# Altium footprint library OnlabFootprints.PcbLib: 14 footprints
Each footprint in its own frame and in the unit in brackets; x right, y up, seen from the top. Pads: shape width x height; smd on the part's side, far side on the other; paste and mask are expansions set on the pad; w line width, h text height; cw(c..) or ccw(c..) is an arc to the next point about the centre after c.
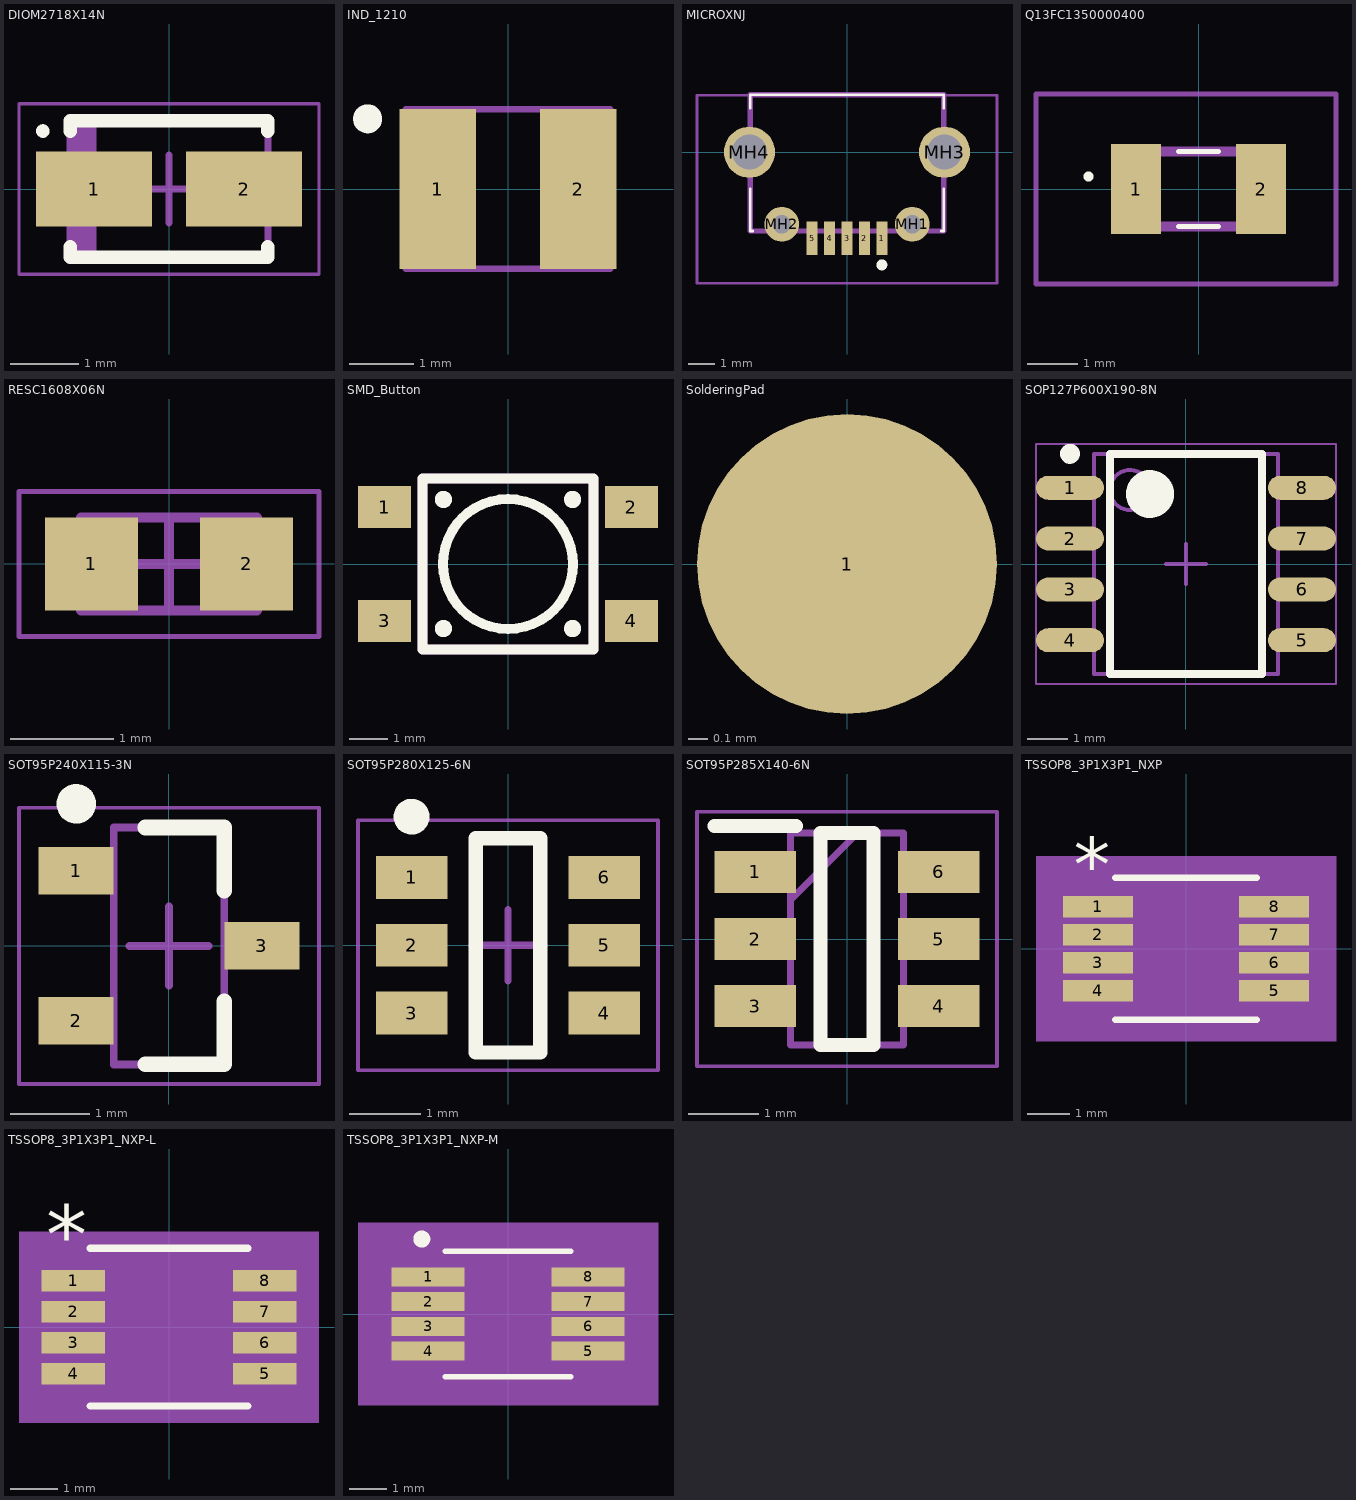
[diagram p0: the footprints below, top view; thin cyan lines are the x and y axes]

## DIOM2718X14N [mm] "Molded Diode, 2-Leads, Body 2,70x1,80mm, IPC Medium Density"
height 1.35
pads (2):
  rect 1.7x1.1 smd: 1(-1.1,0) 2(1.1,0)
Top Overlay:
  circle w0.1: c-1.85,0.85 r0.05
  lines w0.2: -1.45,-0.85 -1.45,-1 1.45,-1 1.45,-0.85 ; -1.45,0.85 -1.45,1 1.45,1 1.45,0.85
Mechanical 13:
  rectangle: -1.45,-1 -1.06,1
  lines w0.1: -1.45,-1 -1.45,1 1.45,1 1.45,-1 -1.45,-1
Mechanical 15:
  lines w0.05: -2.2,-1.25 -2.2,1.25 2.2,1.25 2.2,-1.25 -2.2,-1.25
  lines w0.1: -0.5,0 0.5,0 ; 0,-0.5 0,0.5
3D body "DIOM2718X14N.step": height 1.35, standoff 0, extent -1.67,-1 1.67,1

## IND_1210 [mm]
pads (2):
  rect 1.2x2.5 smd: 1(-1.1,0) 2(1.1,0)
Top Overlay:
  circle w0.254: c-2.2,1.1 r0.1
Mechanical 13:
  lines w0.1: -1.6,-1.25 1.6,-1.25 1.6,1.25 -1.6,1.25 -1.6,-1.25

## MICROXNJ [mm]
pads (9):
  rect 0.4x1.25 smd: 1(1.3,-3.2) 2(0.65,-3.2) 3(0,-3.2) 4(-0.65,-3.2) 5(-1.3,-3.2)
  round 1.3 hole 0.7: MH1(2.425,-2.68) MH2(-2.425,-2.68)
  round 1.9 hole 1.3: MH3(3.625,0) MH4(-3.625,0)
Top Overlay:
  lines w0.1: -3.6,-1.37 -3.6,-2.93 -3.5,-2.93 ; -3.6,1.63 -3.6,2.13 3.6,2.13 3.6,1.63 ; 3.5,-2.93 3.6,-2.93 3.6,-1.37
  lines w0.2: 1.197,-4.191 ccw(c1.297,-4.191) 1.397,-4.191 ccw(c1.297,-4.191) 1.197,-4.191
Mechanical 13:
  lines w0.2: -3.6,-2.93 3.6,-2.93 3.6,2.13 -3.6,2.13 -3.6,-2.93
Mechanical 15:
  lines w0.1: -5.575,-4.87 5.575,-4.87 ; -5.575,-4.87 -5.575,2.12 ; -5.575,-4.87 5.575,-4.87 ; -5.575,-4.87 -5.575,2.12 ; -5.575,2.12 5.575,2.12 ; -5.575,2.12 5.575,2.12 ; 5.575,-4.87 5.575,2.12 ; 5.575,-4.87 5.575,2.12
3D body "MICROXNJ.stp": height 2.55, standoff -1.07, extent -3.95,-3.18 3.95,2.72

## Q13FC1350000400 [mm]
pads (2):
  rect 1x1.8 smd: 1(-1.25,0) 2(1.25,0)
Top Overlay:
  lines w0.1: -0.4,-0.75 0.4,-0.75 ; -0.4,0.75 0.4,0.75 ; -2.2,0.2 ccw(c-2.2,0.25) -2.2,0.3 ccw(c-2.2,0.25) -2.2,0.2
Mechanical 13:
  lines w0.2: -1.6,-0.75 1.6,-0.75 1.6,0.75 -1.6,0.75 -1.6,-0.75
Mechanical 15:
  lines w0.1: -3.25,-1.9 2.75,-1.9 2.75,1.9 -3.25,1.9 -3.25,-1.9

## RESC1608X06N [mm] "Chip Resistor, 2-Leads, Body 1,60x0,80mm, IPC Medium Density"
height 0.6
pads (2):
  rect 0.9x0.9 smd: 1(-0.75,0) 2(0.75,0)
Mechanical 13:
  lines w0.1: -0.85,-0.45 0.85,-0.45 0.85,0.45 -0.85,0.45 -0.85,-0.45
Mechanical 15:
  lines w0.05: -1.45,-0.7 1.45,-0.7 1.45,0.7 -1.45,0.7 -1.45,-0.7
  lines w0.1: -0.45,0 0.45,0 ; 0,-0.45 0,0.45
3D body "RESC1608X06N.step": height 0.6, standoff 0, extent -0.85,-0.45 0.85,0.45

## SMD_Button [mm]
pads (4):
  rect 1.4x1.1 smd: 1(-3.25,1.5) 2(3.25,1.5) 3(-3.25,-1.5) 4(3.25,-1.5)
Top Overlay:
  circle w0.254: c0,0 r1.712
  circle w0.254: c-1.7,-1.7 r0.1
  circle w0.254: c-1.7,1.7 r0.1
  circle w0.254: c1.7,1.7 r0.1
  circle w0.254: c1.7,-1.7 r0.1
  lines w0.254: -2.25,-2.25 2.25,-2.25 2.25,2.25 -2.25,2.25 -2.25,-2.25
Mechanical 13:
  lines w0.254: -2.25,-2.25 -2.25,2.25 2.25,2.25 2.25,-2.25 -2.25,-2.25

## SolderingPad [mil]
pads (1):
  round 60 smd: 1(0,0)

## SOP127P600X190-8N [mm] "SOP, 8-Leads, Body 5,15x4,45mm, Pitch 1,27mm, IPC Medium Density"
height 1.9
pads (8):
  oval 1.7x0.6 smd: 1(-2.9,1.905) 2(-2.9,0.635) 3(-2.9,-0.635) 4(-2.9,-1.905) 5(2.9,-1.905) 6(2.9,-0.635) 7(2.9,0.635) 8(2.9,1.905)
Top Overlay:
  circle w0.25: c-2.9,2.755 r0.125
  circle w0.6: c-0.9,1.75 r0.3
  lines w0.2: -1.9,-2.75 -1.9,2.75 1.9,2.75 1.9,-2.75 -1.9,-2.75
Mechanical 13:
  circle w0.1: c-1.4,1.85 r0.5
  lines w0.1: -2.3,-2.75 -2.3,2.75 2.3,2.75 2.3,-2.75 -2.3,-2.75
Mechanical 15:
  lines w0.05: -3.75,-3 -3.75,3 3.75,3 3.75,-3 -3.75,-3
  lines w0.1: -0.5,0 0.5,0 ; 0,-0.5 0,0.5
3D body "SOP127P600X190-8N.step": height 1.9, standoff 0, extent -3,-2.75 3,2.75

## SOT95P240X115-3N [mm] "SOT23, 3-Leads, Body 2,90x2,40mm, Pitch 0,95mm, IPC Medium Density"
height 1.15
pads (3):
  rect 0.95x0.6 smd: 1(-1.175,0.95) 2(-1.175,-0.95) 3(1.175,0)
Top Overlay:
  circle w0.25: c-1.175,1.8 r0.125
  lines w0.2: -0.3,-1.5 0.7,-1.5 0.7,-0.7 ; -0.3,1.5 0.7,1.5 0.7,0.7
Mechanical 13:
  lines w0.1: -0.7,-1.5 0.7,-1.5 0.7,1.5 -0.7,1.5 -0.7,-1.5
Mechanical 15:
  lines w0.05: -1.9,-1.75 1.9,-1.75 1.9,1.75 -1.9,1.75 -1.9,-1.75
  lines w0.1: -0.5,0 0.5,0 ; 0,-0.5 0,0.5
3D body "SOT95P240X115-3N.step": height 1.15, standoff 0, extent -1.275,-1.5 1.275,1.5

## SOT95P280X125-6N [mm] "SOT23, 6-Leads, Body 2,92x2,80mm, Pitch 0,95mm, IPC Medium Density"
height 1.25
pads (6):
  rect 1x0.6 smd: 1(-1.35,0.95) 2(-1.35,0) 3(-1.35,-0.95) 4(1.35,-0.95) 5(1.35,0) 6(1.35,0.95)
Top Overlay:
  circle w0.25: c-1.35,1.8 r0.125
  lines w0.2: -0.45,-1.5 -0.45,1.5 0.45,1.5 0.45,-1.5 -0.45,-1.5
Mechanical 15:
  lines w0.05: -2.1,-1.75 2.1,-1.75 2.1,1.75 -2.1,1.75 -2.1,-1.75
  lines w0.1: -0.5,0 0.5,0 ; 0,-0.5 0,0.5
3D body "SOT-23-6L.step": height 1.46, standoff 0.01, extent -1.403,-1.45 1.397,1.45

## SOT95P285X140-6N [mm]
pads (6):
  rect 1.15x0.6 smd: 1(-1.3,0.95) 2(-1.3,0) 3(-1.3,-0.95) 4(1.3,-0.95) 5(1.3,0) 6(1.3,0.95)
Top Overlay:
  lines w0.2: -1.875,1.6 -0.725,1.6 ; -0.375,-1.5 -0.375,1.5 0.375,1.5 0.375,-1.5 -0.375,-1.5
Mechanical 13:
  lines w0.1: -0.8,0.55 0.15,1.5 ; -0.8,-1.5 -0.8,1.5 0.8,1.5 0.8,-1.5 -0.8,-1.5
Mechanical 15:
  lines w0.05: -2.125,-1.8 -2.125,1.8 2.125,1.8 2.125,-1.8 -2.125,-1.8
3D body "AP1603WG-7.stp": height 1.4, standoff 0, extent -1.425,-1.5 1.425,1.5

## TSSOP8_3P1X3P1_NXP [mil]
pads (8):
  rect 65x20 smd paste+0 mask+0: 1(-82,39) 2(-82,13) 3(-82,-13) 4(-82,-39) 5(82,-39) 6(82,-13) 7(82,13) 8(82,39)
Top Overlay:
  lines w6: -66,-66 66,-66 ; -66,66 66,66
  text "*" at -104.5,54 h50
Mechanical 5:
  region: 139.5,-86 -139.5,-86 -139.5,86 139.5,86
Mechanical 13:
  lines w0: -12,61 ccw(c0,61) 12,61
  lines w1: -100.5,-48 -61,-48 -61,-30 -100.5,-30 -100.5,-48 ; -100.5,-22 -61,-22 -61,-4 -100.5,-4 -100.5,-22 ; -100.5,4 -61,4 -61,22 -100.5,22 -100.5,4 ; -100.5,30 -61,30 -61,48 -100.5,48 -100.5,30 ; -61,-61 -61,61 61,61 61,-61 -61,-61 ; 61,-48 100.5,-48 100.5,-30 61,-30 61,-48 ; 61,-22 100.5,-22 100.5,-4 61,-4 61,-22 ; 61,4 100.5,4 100.5,22 61,22 61,4 ; 61,30 100.5,30 100.5,48 61,48 61,30
  text "*" at -58.5,8 h50
Mechanical 15:
  region: -71,-59 -124.5,-59 -124.5,59 -71,59 -71,71 71,71 71,59 124.5,59 124.5,-59 71,-59 71,-71 -71,-71
  lines w6: -124.5,-59 -71,-59 -71,-71 71,-71 71,-59 124.5,-59 124.5,59 71,59 71,71 -71,71 -71,59 -124.5,59 -124.5,-59
3D body "TSSOP8_3P1X3P1_NXP.step": height 43.11, standoff 0, extent -100.51,-60.98 100.51,60.98

## TSSOP8_3P1X3P1_NXP-L [mil]
pads (8):
  rect 53x18 smd paste+0 mask+0: 1(-80,39) 2(-80,13) 3(-80,-13) 4(-80,-39) 5(80,-39) 6(80,-13) 7(80,13) 8(80,39)
Top Overlay:
  lines w6: -66,-66 66,-66 ; -66,66 66,66
  text "*" at -102.5,52 h50
Mechanical 5:
  region: 125.5,-80 -125.5,-80 -125.5,80 125.5,80
Mechanical 13:
  lines w0: -12,61 ccw(c0,61) 12,61
  lines w1: -100.5,-48 -100.5,-30 -61,-30 -61,-48 -100.5,-48 ; -100.5,-22 -100.5,-4 -61,-4 -61,-22 -100.5,-22 ; -100.5,4 -100.5,22 -61,22 -61,4 -100.5,4 ; -100.5,30 -100.5,48 -61,48 -61,30 -100.5,30 ; -61,-61 61,-61 61,61 -61,61 -61,-61 ; 61,-48 61,-30 100.5,-30 100.5,-48 61,-48 ; 61,-22 61,-4 100.5,-4 100.5,-22 61,-22 ; 61,4 61,22 100.5,22 100.5,4 61,4 ; 61,30 61,48 100.5,48 100.5,30 61,30
  text "*" at -58.5,8 h50
Mechanical 15:
  region: -65,-52 -110.5,-52 -110.5,52 -65,52 -65,65 65,65 65,52 110.5,52 110.5,-52 65,-52 65,-65 -65,-65
  lines w6: -110.5,-52 -110.5,52 -65,52 -65,65 65,65 65,52 110.5,52 110.5,-52 65,-52 65,-65 -65,-65 -65,-52 -110.5,-52
3D body "TSSOP8_3P1X3P1_NXP.step": height 43.11, standoff 0, extent -100.51,-60.98 100.51,60.98

## TSSOP8_3P1X3P1_NXP-M [mil]
pads (8):
  rect 77x20 smd paste+0 mask+0: 1(-84,39) 2(-84,13) 3(-84,-13) 4(-84,-39) 5(84,-39) 6(84,-13) 7(84,13) 8(84,39)
Top Overlay:
  circle w10: c-90.55,78.74 r3.94
  lines w6: -66,-66 66,-66 ; -66,66 66,66
Mechanical 5:
  region: 157.5,-96 -157.5,-96 -157.5,96 157.5,96
Mechanical 13:
  lines w0: -12,61 ccw(c0,61) 12,61
  lines w1: -100.5,-48 -61,-48 -61,-30 -100.5,-30 -100.5,-48 ; -100.5,-22 -61,-22 -61,-4 -100.5,-4 -100.5,-22 ; -100.5,4 -61,4 -61,22 -100.5,22 -100.5,4 ; -100.5,30 -61,30 -61,48 -100.5,48 -100.5,30 ; -61,-61 -61,61 61,61 61,-61 -61,-61 ; 61,-48 100.5,-48 100.5,-30 61,-30 61,-48 ; 61,-22 100.5,-22 100.5,-4 61,-4 61,-22 ; 61,4 100.5,4 100.5,22 61,22 61,4 ; 61,30 100.5,30 100.5,48 61,48 61,30
  text "*" at -58.5,8 h50
Mechanical 15:
  region: -81,-69 -142.5,-69 -142.5,69 -81,69 -81,81 81,81 81,69 142.5,69 142.5,-69 81,-69 81,-81 -81,-81
  lines w6: -142.5,-69 -81,-69 -81,-81 81,-81 81,-69 142.5,-69 142.5,69 81,69 81,81 -81,81 -81,69 -142.5,69 -142.5,-69
3D body "TSSOP8_3P1X3P1_NXP.step": height 43.11, standoff 0, extent -100.51,-60.98 100.51,60.98